# EAGLE library part YM5214 (library ym5214)
YM5214
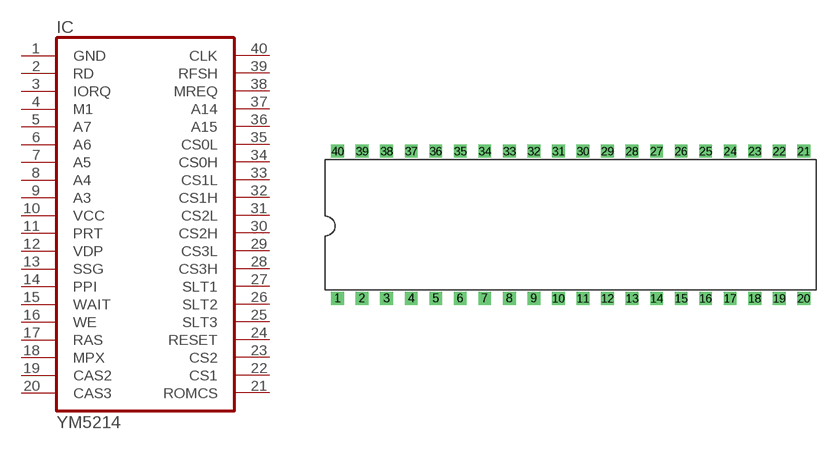
[diagram p0: symbol with the pads of DIL40; footprint DIL40]

Designator prefix IC

## YM5214  [DIL40]
1  GND  out
2  RD  out
3  IORQ  out
4  M1  out
5  A7  out
6  A6  out
7  A5  out
8  A4  out
9  A3  out
10  VCC  out
11  PRT  out
12  VDP  out
13  SSG  out
14  PPI  out
15  WAIT  out
16  WE  out
17  RAS  out
18  MPX  out
19  CAS2  out
20  CAS3  out
21  ROMCS
22  CS1
23  CS2
24  RESET  out
25  SLT3  out
26  SLT2  out
27  SLT1  out
28  CS3H  out
29  CS3L  out
30  CS2H  out
31  CS2L  out
32  CS1H  out
33  CS1L  out
34  CS0H  out
35  CS0L  out
36  A15  out
37  A14  out
38  MREQ  out
39  RFSH  out
40  CLK  out

## Footprint DIL40 (pad centres in mm)
Dual In Line Package
drill 0.813 square: 1 -24.13,-7.62; 2 -21.59,-7.62; 3 -19.05,-7.62; 4 -16.51,-7.62; 5 -13.97,-7.62; 6 -11.43,-7.62; 7 -8.89,-7.62; 8 -6.35,-7.62; 9 -3.81,-7.62; 10 -1.27,-7.62; 11 1.27,-7.62; 12 3.81,-7.62; 13 6.35,-7.62; 14 8.89,-7.62; 15 11.43,-7.62; 16 13.97,-7.62; 17 16.51,-7.62; 18 19.05,-7.62; 19 21.59,-7.62; 20 24.13,-7.62; 21 24.13,7.62; 22 21.59,7.62; 23 19.05,7.62; 24 16.51,7.62; 25 13.97,7.62; 26 11.43,7.62; 27 8.89,7.62; 28 6.35,7.62; 29 3.81,7.62; 30 1.27,7.62; 31 -1.27,7.62; 32 -3.81,7.62; 33 -6.35,7.62; 34 -8.89,7.62; 35 -11.43,7.62; 36 -13.97,7.62; 37 -16.51,7.62; 38 -19.05,7.62; 39 -21.59,7.62; 40 -24.13,7.62